# EAGLE library part MDSSV-BC06 (library con-yamaichi)
YAMAICHI CONNECTOR
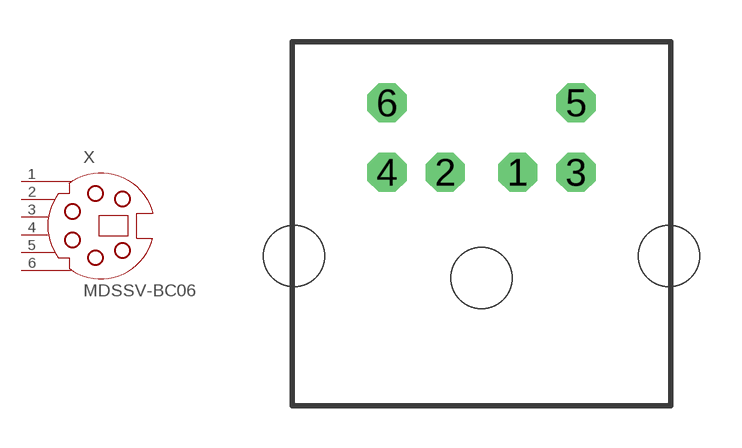
[diagram p9: symbol with the pads of SSV-BC06; footprint SSV-BC06]

Designator prefix X

## MDSSV-BC06  [SSV-BC06]
1  1  pas
2  2  pas
3  3  pas
4  4  pas
5  5  pas
6  6  pas

## Footprint SSV-BC06 (pad centres in mm)
Mini Din YAMAICHI CONNECTOR
drill 0.9 octagon: 1 1.3,8.5; 2 -1.3,8.5; 3 3.4,8.5; 4 -3.4,8.5; 5 3.4,11; 6 -3.4,11
hole 2.2 at -6.75,5.5
hole 2.2 at 0,4.7
hole 2.2 at 6.75,5.5